# EAGLE library part K1_TEGRA_CONN_220 (library stephan)
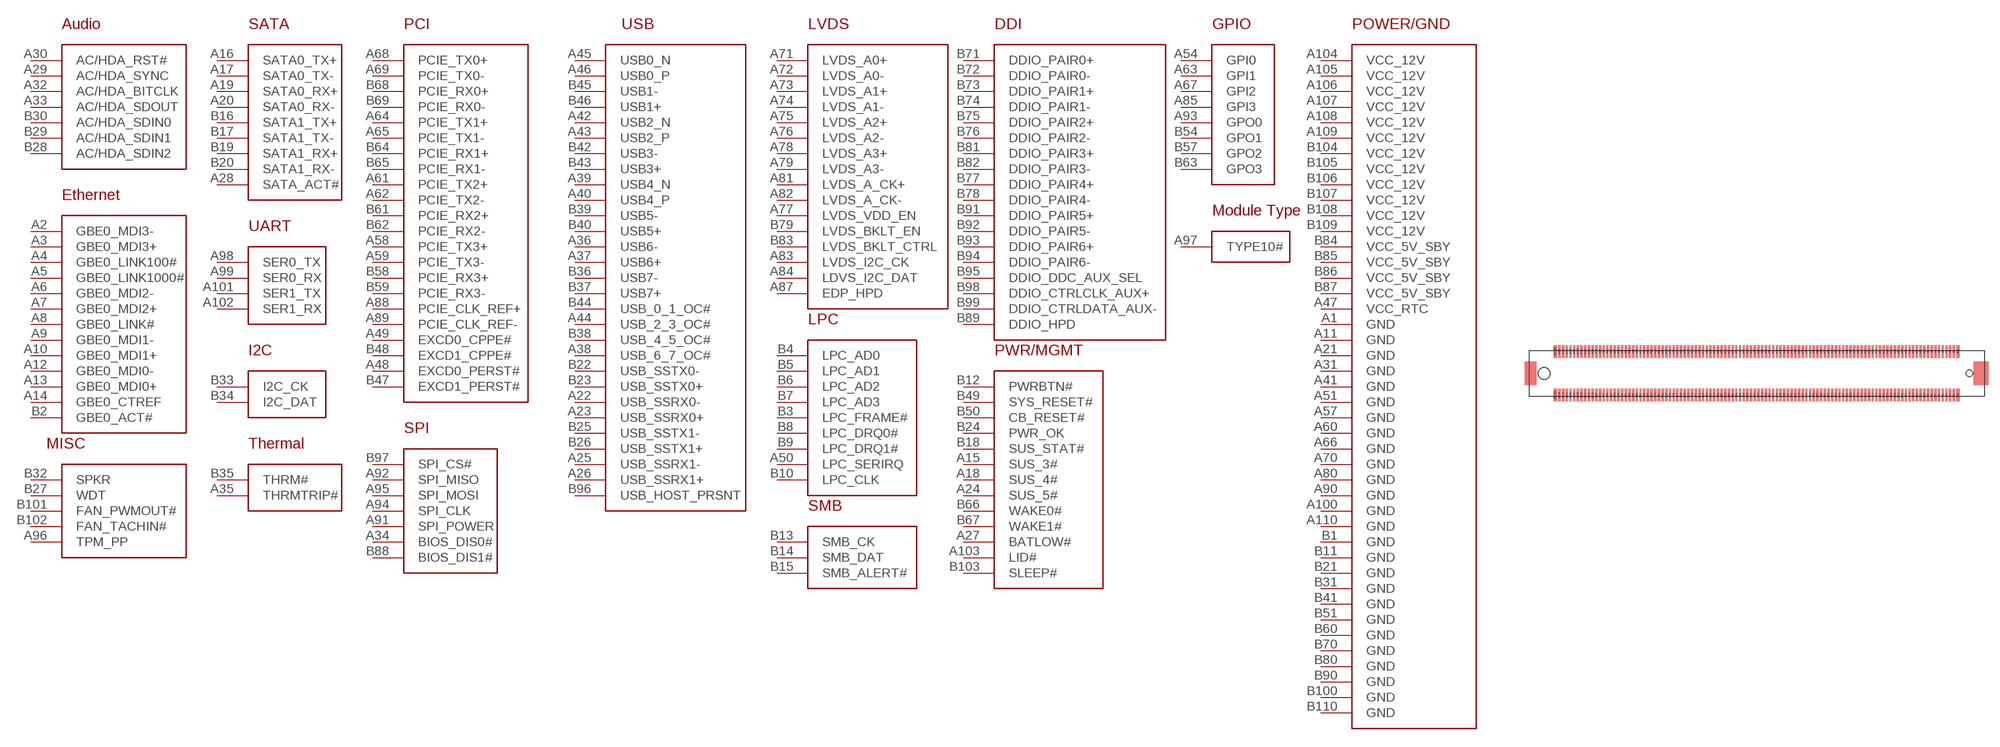
[diagram p0: symbol with the pads of K1_TEGRA_CONN_1827253; footprint K1_TEGRA_CONN_1827253]

Designator prefix -; gates G$1=K1_CONN_AUDIO G$2=K1_CONN_ETH G$3=K1_CONN_SATA G$4=K1_CONN_PCI G$5=K1_CONN_USB G$6=K1_CONN_UART G$7=K1_CONN_LVDS G$8=K1_CONN_LPC G$9=K1_CONN_I2C G$10=K1_CONN_SPI G$11=K1_CONN_DDI G$12=K1_CONN_MISC G$13=K1_CONN_PWRMGMT G$14=K1_CONN_THERM G$15=K1_CONN_SMB G$16=K1_CONN_GPIO G$17=K1_CONN_MTYPE G$18=K1_CONN_PWRGND

## K1_TEGRA_CONN_220  [K1_TEGRA_CONN_1827253]
A1  G$18:GND
A2  G$2:GBE0_MDI3-
A3  G$2:GBE0_MDI3+
A4  G$2:GBE0_LINK100#
A5  G$2:GBE0_LINK1000#
A6  G$2:GBE0_MDI2-
A7  G$2:GBE0_MDI2+
A8  G$2:GBE0_LINK#
A9  G$2:GBE0_MDI1-
A10  G$2:GBE0_MDI1+
A11  G$18:GND
A12  G$2:GBE0_MDI0-
A13  G$2:GBE0_MDI0+
A14  G$2:GBE0_CTREF
A15  G$13:SUS_3#
A16  G$3:SATA0_TX+
A17  G$3:SATA0_TX-
A18  G$13:SUS_4#
A19  G$3:SATA0_RX+
A20  G$3:SATA0_RX-
A21  G$18:GND
A22  G$5:USB_SSRX0-
A23  G$5:USB_SSRX0+
A24  G$13:SUS_5#
A25  G$5:USB_SSRX1-
A26  G$5:USB_SSRX1+
A27  G$13:BATLOW#
A28  G$3:SATA_ACT#
A29  G$1:AC/HDA_SYNC
A30  G$1:AC/HDA_RST#
A31  G$18:GND
A32  G$1:AC/HDA_BITCLK
A33  G$1:AC/HDA_SDOUT
A34  G$10:BIOS_DIS0#
A35  G$14:THRMTRIP#
A36  G$5:USB6-
A37  G$5:USB6+
A38  G$5:USB_6_7_OC#
A39  G$5:USB4_N
A40  G$5:USB4_P
A41  G$18:GND
A42  G$5:USB2_N
A43  G$5:USB2_P
A44  G$5:USB_2_3_OC#
A45  G$5:USB0_N
A46  G$5:USB0_P
A47  G$18:VCC_RTC  pwr
A48  G$4:EXCD0_PERST#
A49  G$4:EXCD0_CPPE#
A50  G$8:LPC_SERIRQ
A51  G$18:GND
A54  G$16:GPI0
A57  G$18:GND
A58  G$4:PCIE_TX3+
A59  G$4:PCIE_TX3-
A60  G$18:GND
A61  G$4:PCIE_TX2+
A62  G$4:PCIE_TX2-
A63  G$16:GPI1
A64  G$4:PCIE_TX1+
A65  G$4:PCIE_TX1-
A66  G$18:GND
A67  G$16:GPI2
A68  G$4:PCIE_TX0+
A69  G$4:PCIE_TX0-
A70  G$18:GND
A71  G$7:LVDS_A0+
A72  G$7:LVDS_A0-
A73  G$7:LVDS_A1+
A74  G$7:LVDS_A1-
A75  G$7:LVDS_A2+
A76  G$7:LVDS_A2-
A77  G$7:LVDS_VDD_EN
A78  G$7:LVDS_A3+
A79  G$7:LVDS_A3-
A80  G$18:GND
A81  G$7:LVDS_A_CK+
A82  G$7:LVDS_A_CK-
A83  G$7:LVDS_I2C_CK
A84  G$7:LDVS_I2C_DAT
A85  G$16:GPI3
A87  G$7:EDP_HPD
A88  G$4:PCIE_CLK_REF+
A89  G$4:PCIE_CLK_REF-
A90  G$18:GND
A91  G$10:SPI_POWER
A92  G$10:SPI_MISO
A93  G$16:GPO0
A94  G$10:SPI_CLK
A95  G$10:SPI_MOSI
A96  G$12:TPM_PP
A97  G$17:TYPE10#
A98  G$6:SER0_TX
A99  G$6:SER0_RX
A100  G$18:GND
A101  G$6:SER1_TX
A102  G$6:SER1_RX
A103  G$13:LID#
A104  G$18:VCC_12V  pwr
A105  G$18:VCC_12V  pwr
A106  G$18:VCC_12V  pwr
A107  G$18:VCC_12V  pwr
A108  G$18:VCC_12V  pwr
A109  G$18:VCC_12V  pwr
A110  G$18:GND
B1  G$18:GND
B2  G$2:GBE0_ACT#
B3  G$8:LPC_FRAME#
B4  G$8:LPC_AD0
B5  G$8:LPC_AD1
B6  G$8:LPC_AD2
B7  G$8:LPC_AD3
B8  G$8:LPC_DRQ0#
B9  G$8:LPC_DRQ1#
B10  G$8:LPC_CLK
B11  G$18:GND
B12  G$13:PWRBTN#
B13  G$15:SMB_CK
B14  G$15:SMB_DAT
B15  G$15:SMB_ALERT#
B16  G$3:SATA1_TX+
B17  G$3:SATA1_TX-
B18  G$13:SUS_STAT#
B19  G$3:SATA1_RX+
B20  G$3:SATA1_RX-
B21  G$18:GND
B22  G$5:USB_SSTX0-
B23  G$5:USB_SSTX0+
B24  G$13:PWR_OK
B25  G$5:USB_SSTX1-
B26  G$5:USB_SSTX1+
B27  G$12:WDT
B28  G$1:AC/HDA_SDIN2
B29  G$1:AC/HDA_SDIN1
B30  G$1:AC/HDA_SDIN0
B31  G$18:GND
B32  G$12:SPKR
B33  G$9:I2C_CK
B34  G$9:I2C_DAT
B35  G$14:THRM#
B36  G$5:USB7-
B37  G$5:USB7+
B38  G$5:USB_4_5_OC#
B39  G$5:USB5-
B40  G$5:USB5+
B41  G$18:GND
B42  G$5:USB3-
B43  G$5:USB3+
B44  G$5:USB_0_1_OC#
B45  G$5:USB1-
B46  G$5:USB1+
B47  G$4:EXCD1_PERST#
B48  G$4:EXCD1_CPPE#
B49  G$13:SYS_RESET#
B50  G$13:CB_RESET#
B51  G$18:GND
B54  G$16:GPO1
B57  G$16:GPO2
B58  G$4:PCIE_RX3+
B59  G$4:PCIE_RX3-
B60  G$18:GND
B61  G$4:PCIE_RX2+
B62  G$4:PCIE_RX2-
B63  G$16:GPO3
B64  G$4:PCIE_RX1+
B65  G$4:PCIE_RX1-
B66  G$13:WAKE0#
B67  G$13:WAKE1#
B68  G$4:PCIE_RX0+
B69  G$4:PCIE_RX0-
B70  G$18:GND
B71  G$11:DDIO_PAIR0+
B72  G$11:DDIO_PAIR0-
B73  G$11:DDIO_PAIR1+
B74  G$11:DDIO_PAIR1-
B75  G$11:DDIO_PAIR2+
B76  G$11:DDIO_PAIR2-
B77  G$11:DDIO_PAIR4+
B78  G$11:DDIO_PAIR4-
B79  G$7:LVDS_BKLT_EN
B80  G$18:GND
B81  G$11:DDIO_PAIR3+
B82  G$11:DDIO_PAIR3-
B83  G$7:LVDS_BKLT_CTRL
B84  G$18:VCC_5V_SBY  pwr
B85  G$18:VCC_5V_SBY  pwr
B86  G$18:VCC_5V_SBY  pwr
B87  G$18:VCC_5V_SBY  pwr
B88  G$10:BIOS_DIS1#
B89  G$11:DDIO_HPD
B90  G$18:GND
B91  G$11:DDIO_PAIR5+
B92  G$11:DDIO_PAIR5-
B93  G$11:DDIO_PAIR6+
B94  G$11:DDIO_PAIR6-
B95  G$11:DDIO_DDC_AUX_SEL
B96  G$5:USB_HOST_PRSNT
B97  G$10:SPI_CS#
B98  G$11:DDIO_CTRLCLK_AUX+
B99  G$11:DDIO_CTRLDATA_AUX-
B100  G$18:GND
B101  G$12:FAN_PWMOUT#
B102  G$12:FAN_TACHIN#
B103  G$13:SLEEP#
B104  G$18:VCC_12V  pwr
B105  G$18:VCC_12V  pwr
B106  G$18:VCC_12V  pwr
B107  G$18:VCC_12V  pwr
B108  G$18:VCC_12V  pwr
B109  G$18:VCC_12V  pwr
B110  G$18:GND

## Footprint K1_TEGRA_CONN_1827253 (pad centres in mm)
smd 0.45 x 1.7: A1 -1.525,0.25; A110 -56.175,0.25; B1 -1.525,-5.65; B110 -56.175,-5.65
smd 0.3 x 1.7: A2 -2.1,0.25; A3 -2.6,0.25; A4 -3.1,0.25; A5 -3.6,0.25; A6 -4.1,0.25; A7 -4.6,0.25; A8 -5.1,0.25; A9 -5.6,0.25; A10 -6.1,0.25; A11 -6.6,0.25; A12 -7.1,0.25; A13 -7.6,0.25; A14 -8.1,0.25; A15 -8.6,0.25; A16 -9.1,0.25; A17 -9.6,0.25; A18 -10.1,0.25; A19 -10.6,0.25; A20 -11.1,0.25; A21 -11.6,0.25; A22 -12.1,0.25; A23 -12.6,0.25; A24 -13.1,0.25; A25 -13.6,0.25; A26 -14.1,0.25; A27 -14.6,0.25; A28 -15.1,0.25; A29 -15.6,0.25; A30 -16.1,0.25; A31 -16.6,0.25; A32 -17.1,0.25; A33 -17.6,0.25; A34 -18.1,0.25; A35 -18.6,0.25; A36 -19.1,0.25; A37 -19.6,0.25; A38 -20.1,0.25; A39 -20.6,0.25; A40 -21.1,0.25; A41 -21.6,0.25; A42 -22.1,0.25; A43 -22.6,0.25; A44 -23.1,0.25; A45 -23.6,0.25; A46 -24.1,0.25; A47 -24.6,0.25; A48 -25.1,0.25; A49 -25.6,0.25; A50 -26.1,0.25; A51 -26.6,0.25; A52 -27.1,0.25; A53 -27.6,0.25; A54 -28.1,0.25; A55 -28.6,0.25; A56 -29.1,0.25; A57 -29.6,0.25; A58 -30.1,0.25; A59 -30.6,0.25; A60 -31.1,0.25; A61 -31.6,0.25; A62 -32.1,0.25; A63 -32.6,0.25; A64 -33.1,0.25; A65 -33.6,0.25; A66 -34.1,0.25; A67 -34.6,0.25; A68 -35.1,0.25; A69 -35.6,0.25; A70 -36.1,0.25; A71 -36.6,0.25; A72 -37.1,0.25; A73 -37.6,0.25; A74 -38.1,0.25; A75 -38.6,0.25; A76 -39.1,0.25; A77 -39.6,0.25; A78 -40.1,0.25; A79 -40.6,0.25; A80 -41.1,0.25; A81 -41.6,0.25; A82 -42.1,0.25; A83 -42.6,0.25; A84 -43.1,0.25; A85 -43.6,0.25; A86 -44.1,0.25; A87 -44.6,0.25; A88 -45.1,0.25; A89 -45.6,0.25; A90 -46.1,0.25; A91 -46.6,0.25; A92 -47.1,0.25; A93 -47.6,0.25; A94 -48.1,0.25; A95 -48.6,0.25; A96 -49.1,0.25; A97 -49.6,0.25; A98 -50.1,0.25; A99 -50.6,0.25; A100 -51.1,0.25; A101 -51.6,0.25; A102 -52.1,0.25; A103 -52.6,0.25; A104 -53.1,0.25; A105 -53.6,0.25; A106 -54.1,0.25; A107 -54.6,0.25; A108 -55.1,0.25; A109 -55.6,0.25; B2 -2.1,-5.65; B3 -2.6,-5.65; B4 -3.1,-5.65; B5 -3.6,-5.65; B6 -4.1,-5.65; B7 -4.6,-5.65; B8 -5.1,-5.65; B9 -5.6,-5.65; B10 -6.1,-5.65; B11 -6.6,-5.65; B12 -7.1,-5.65; B13 -7.6,-5.65; B14 -8.1,-5.65; B15 -8.6,-5.65; B16 -9.1,-5.65; B17 -9.6,-5.65; B18 -10.1,-5.65; B19 -10.6,-5.65; B20 -11.1,-5.65; B21 -11.6,-5.65; B22 -12.1,-5.65; B23 -12.6,-5.65; B24 -13.1,-5.65; B25 -13.6,-5.65; B26 -14.1,-5.65; B27 -14.6,-5.65; B28 -15.1,-5.65; B29 -15.6,-5.65; B30 -16.1,-5.65; B31 -16.6,-5.65; B32 -17.1,-5.65; B33 -17.6,-5.65; B34 -18.1,-5.65; B35 -18.6,-5.65; B36 -19.1,-5.65; B37 -19.6,-5.65; B38 -20.1,-5.65; B39 -20.6,-5.65; B40 -21.1,-5.65; B41 -21.6,-5.65; B42 -22.1,-5.65; B43 -22.6,-5.65; B44 -23.1,-5.65; B45 -23.6,-5.65; B46 -24.1,-5.65; B47 -24.6,-5.65; B48 -25.1,-5.65; B49 -25.6,-5.65; B50 -26.1,-5.65; B51 -26.6,-5.65; B52 -27.1,-5.65; B53 -27.6,-5.65; B54 -28.1,-5.65; B55 -28.6,-5.65; B56 -29.1,-5.65; B57 -29.6,-5.65; B58 -30.1,-5.65; B59 -30.6,-5.65; B60 -31.1,-5.65; B61 -31.6,-5.65; B62 -32.1,-5.65; B63 -32.6,-5.65; B64 -33.1,-5.65; B65 -33.6,-5.65; B66 -34.1,-5.65; B67 -34.6,-5.65; B68 -35.1,-5.65; B69 -35.6,-5.65; B70 -36.1,-5.65; B71 -36.6,-5.65; B72 -37.1,-5.65; B73 -37.6,-5.65; B74 -38.1,-5.65; B75 -38.6,-5.65; B76 -39.1,-5.65; B77 -39.6,-5.65; B78 -40.1,-5.65; B79 -40.6,-5.65; B80 -41.1,-5.65; B81 -41.6,-5.65; B82 -42.1,-5.65; B83 -42.6,-5.65; B84 -43.1,-5.65; B85 -43.6,-5.65; B86 -44.1,-5.65; B87 -44.6,-5.65; B88 -45.1,-5.65; B89 -45.6,-5.65; B90 -46.1,-5.65; B91 -46.6,-5.65; B92 -47.1,-5.65; B93 -47.6,-5.65; B94 -48.1,-5.65; B95 -48.6,-5.65; B96 -49.1,-5.65; B97 -49.6,-5.65; B98 -50.1,-5.65; B99 -50.6,-5.65; B100 -51.1,-5.65; B101 -51.6,-5.65; B102 -52.1,-5.65; B103 -52.6,-5.65; B104 -53.1,-5.65; B105 -53.6,-5.65; B106 -54.1,-5.65; B107 -54.6,-5.65; B108 -55.1,-5.65; B109 -55.6,-5.65
hole 0.9 at 0,-2.7
hole 1.6 at -57.7,-2.7